# EAGLE library part TLC0838 (library xess)
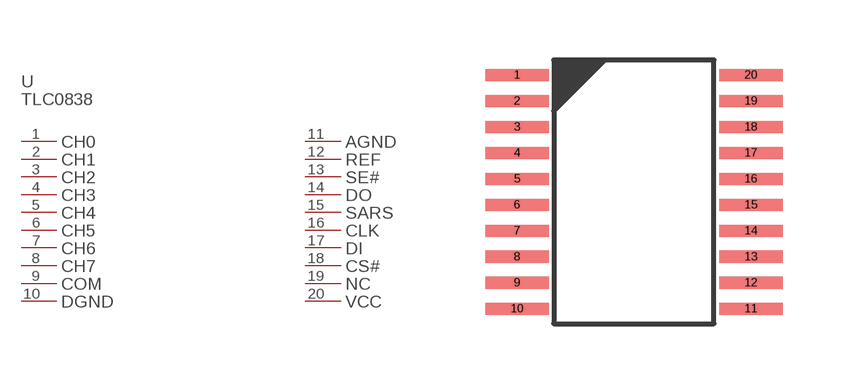
[diagram p58: symbol with the pads of TLC0838; footprint TLC0838]

Designator prefix U; gates PART_VALUE=PART_VALUE-TLC0838 CH0=PL-TLC0838 CH1=PL-TLC0838 CH2=PL-TLC0838 CH3=PL-TLC0838 CH4=PL-TLC0838 CH5=PL-TLC0838 CH6=PL-TLC0838 CH7=PL-TLC0838 COM=PL-TLC0838 DGND=PL-TLC0838 AGND=PL-TLC0838 REF=PL-TLC0838 SE#=PL-TLC0838 DO=PL-TLC0838 SARS=PL-TLC0838 CLK=PL-TLC0838 DI=PL-TLC0838 CS#=PL-TLC0838 NC=PL-TLC0838 VCC=PL-TLC0838

## TLC0838  [TLC0838]
1  CH0:P$1
2  CH1:P$1
3  CH2:P$1
4  CH3:P$1
5  CH4:P$1
6  CH5:P$1
7  CH6:P$1
8  CH7:P$1
9  COM:P$1
10  DGND:P$1
11  AGND:P$1
12  REF:P$1
13  SE#:P$1
14  DO:P$1
15  SARS:P$1
16  CLK:P$1
17  DI:P$1
18  CS#:P$1
19  NC:P$1
20  VCC:P$1

## Footprint TLC0838 (pad centres in mm)
smd 1.59 x 0.3: 1 0,0; 2 0,-0.65; 3 0,-1.3; 4 0,-1.95; 5 0,-2.6; 6 0,-3.25; 7 0,-3.9; 8 0,-4.55; 9 0,-5.2; 10 0,-5.85; 11 5.85,-5.85; 12 5.85,-5.2; 13 5.85,-4.55; 14 5.85,-3.9; 15 5.85,-3.25; 16 5.85,-2.6; 17 5.85,-1.95; 18 5.85,-1.3; 19 5.85,-0.65; 20 5.85,0